# Altium footprint library tqfp.PcbLib: 23 footprints (part 1 of 2)
Each footprint in its own frame and in the unit in brackets; x right, y up, seen from the top. Pads: shape width x height; smd on the part's side, far side on the other; paste and mask are expansions set on the pad; w line width, h text height; cw(c..) or ccw(c..) is an arc to the next point about the centre after c.
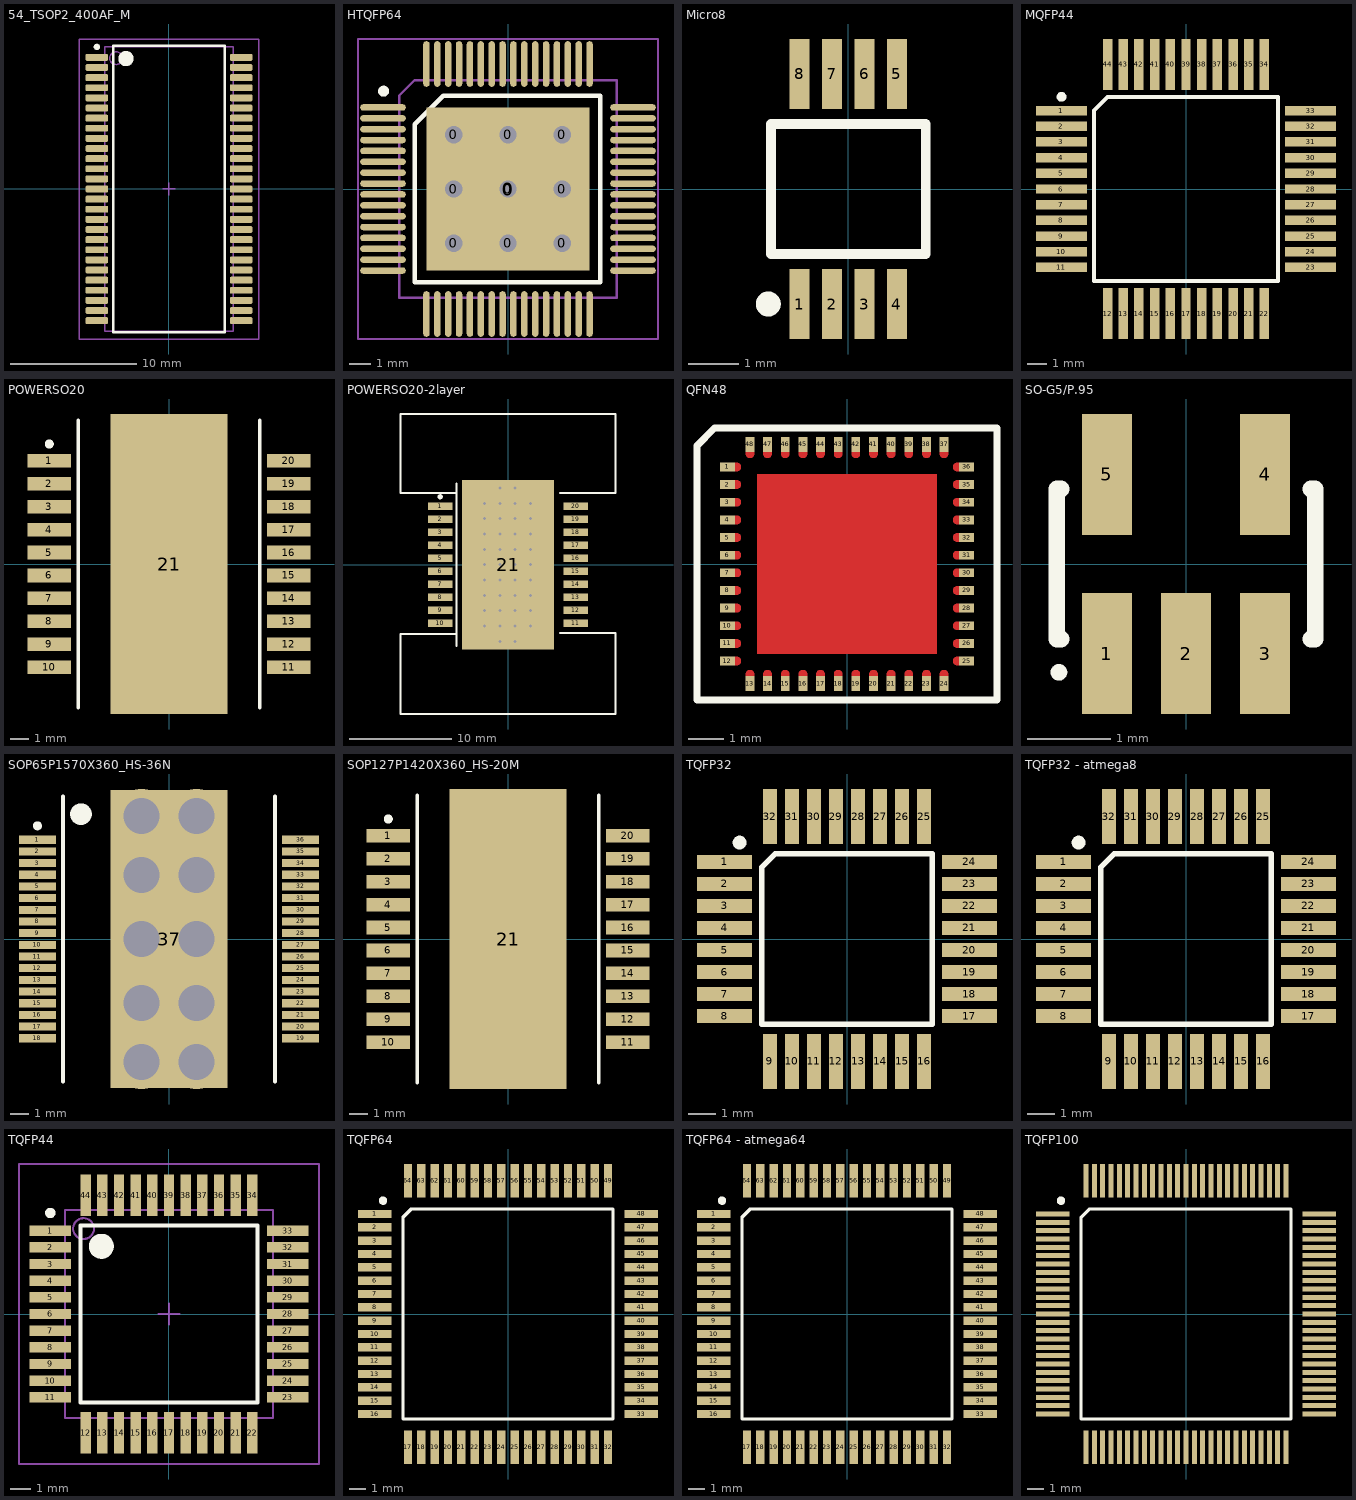
[diagram p0: the footprints below, top view; thin cyan lines are the x and y axes]

## 54_TSOP2_400AF_M [mm] "SOP, 54-Leads, Body 22.5x10.16mm, Pitch 0.8mm, IPC Low Density"
height 1.2
pads (54):
  rrect50% 1.8x0.55 smd: 1(-5.7,10.4) 2(-5.7,9.6) 3(-5.7,8.8) 4(-5.7,8) 5(-5.7,7.2) 6(-5.7,6.4) 7(-5.7,5.6) 8(-5.7,4.8) 9(-5.7,4) 10(-5.7,3.2) 11(-5.7,2.4) 12(-5.7,1.6) 13(-5.7,0.8) 14(-5.7,0) 15(-5.7,-0.8) 16(-5.7,-1.6) 17(-5.7,-2.4) 18(-5.7,-3.2) 19(-5.7,-4) 20(-5.7,-4.8) 21(-5.7,-5.6) 22(-5.7,-6.4) 23(-5.7,-7.2) 24(-5.7,-8) 25(-5.7,-8.8) 26(-5.7,-9.6) 27(-5.7,-10.4) 28(5.7,-10.4) 29(5.7,-9.6) 30(5.7,-8.8) 31(5.7,-8) 32(5.7,-7.2) 33(5.7,-6.4) 34(5.7,-5.6) 35(5.7,-4.8) 36(5.7,-4) 37(5.7,-3.2) 38(5.7,-2.4) 39(5.7,-1.6) 40(5.7,-0.8) 41(5.7,0) 42(5.7,0.8) 43(5.7,1.6) 44(5.7,2.4) 45(5.7,3.2) 46(5.7,4) 47(5.7,4.8) 48(5.7,5.6) 49(5.7,6.4) 50(5.7,7.2) 51(5.7,8) 52(5.7,8.8) 53(5.7,9.6) 54(5.7,10.4)
Top Overlay:
  circle w0.25: c-5.7,11.225 r0.125
  circle w0.6: c-3.4,10.3 r0.3
  lines w0.2: -4.4,-11.3 -4.4,11.3 4.4,11.3 4.4,-11.3 -4.4,-11.3
Mechanical 13:
  circle w0.1: c-4.18,10.335 r0.5
  lines w0.1: -5.08,-11.235 -5.08,11.235 5.08,11.235 5.08,-11.235 -5.08,-11.235
Mechanical 15:
  lines w0.1: -0.5,0 0.5,0 ; 0,-0.5 0,0.5 ; -7.1,-11.85 -7.1,11.85 7.1,11.85 7.1,-11.85 -7.1,-11.85
3D body: height 1.2, standoff 0, extent -5.08,-11.235 5.08,11.235

## HTQFP64 [mm]
pads (74):
  round 0.8 hole 0.8: 0(-2.5,-2.5) 0(-2.5,0) 0(-2.5,2.5) 0(0,-2.5) 0(0,0) 0(0,2.5) 0(2.5,-2.5) 0(2.5,0) 0(2.5,2.5)
  rect 7.5x7.5 smd: 0(0,0)
  oval 2.1x0.3 smd: 1(-5.75,3.75) 2(-5.75,3.25) 3(-5.75,2.75) 4(-5.75,2.25) 5(-5.75,1.75) 6(-5.75,1.25) 7(-5.75,0.75) 8(-5.75,0.25) 9(-5.75,-0.25) 10(-5.75,-0.75) 11(-5.75,-1.25) 12(-5.75,-1.75) 13(-5.75,-2.25) 14(-5.75,-2.75) 15(-5.75,-3.25) 16(-5.75,-3.75) 33(5.75,-3.75) 34(5.75,-3.25) 35(5.75,-2.75) 36(5.75,-2.25) 37(5.75,-1.75) 38(5.75,-1.25) 39(5.75,-0.75) 40(5.75,-0.25) 41(5.75,0.25) 42(5.75,0.75) 43(5.75,1.25) 44(5.75,1.75) 45(5.75,2.25) 46(5.75,2.75) 47(5.75,3.25) 48(5.75,3.75)
  oval 0.3x2.1 smd: 17(-3.75,-5.75) 18(-3.25,-5.75) 19(-2.75,-5.75) 20(-2.25,-5.75) 21(-1.75,-5.75) 22(-1.25,-5.75) 23(-0.75,-5.75) 24(-0.25,-5.75) 25(0.25,-5.75) 26(0.75,-5.75) 27(1.25,-5.75) 28(1.75,-5.75) 29(2.25,-5.75) 30(2.75,-5.75) 31(3.25,-5.75) 32(3.75,-5.75) 49(3.75,5.75) 50(3.25,5.75) 51(2.75,5.75) 52(2.25,5.75) 53(1.75,5.75) 54(1.25,5.75) 55(0.75,5.75) 56(0.25,5.75) 57(-0.25,5.75) 58(-0.75,5.75) 59(-1.25,5.75) 60(-1.75,5.75) 61(-2.25,5.75) 62(-2.75,5.75) 63(-3.25,5.75) 64(-3.75,5.75)
Top Overlay:
  circle w0.25: c-5.725,4.5 r0.125
  lines w0.2: -4.29,-4.29 -4.29,2.98 -2.98,4.29 4.25,4.29 4.25,-4.29 -4.29,-4.29
Mechanical 13:
  lines w0.1: -5,-5 5,-5 5,5 -4.3,5 -5,4.3 -5,-5
Mechanical 15:
  lines w0.1: -0.5,0 0.5,0 ; 0,-0.5 0,0.5 ; -6.9,-6.9 -6.9,6.9 6.9,6.9 6.9,-6.9 -6.9,-6.9
3D body: height 0, standoff 0, extent -5,-5 5,5

## Micro8 [mm]
height 1.1
pads (8):
  rect 0.4x1.4 smd: 1(-0.975,-2.3) 2(-0.325,-2.3) 3(0.325,-2.3) 4(0.975,-2.3) 5(0.975,2.3) 6(0.325,2.3) 7(-0.325,2.3) 8(-0.975,2.3)
Top Overlay:
  circle w0.25: c-1.6,-2.3 r0.125
  lines w0.2: -1.55,-1.3 1.55,-1.3 1.55,1.3 -1.55,1.3 -1.55,-1.3
3D body: height 1.09, standoff -0.01, extent -1.524,-2.469 1.576,2.469

## MQFP44 [mm] "QFP; 44 Leads; Body 10 x 10 mm; Pitch 0.8 mm"
height 2.45
pads (44):
  rect 2.6x0.48 smd: 1(-6.35,4) 2(-6.35,3.2) 3(-6.35,2.4) 4(-6.35,1.6) 5(-6.35,0.8) 6(-6.35,0) 7(-6.35,-0.8) 8(-6.35,-1.6) 9(-6.35,-2.4) 10(-6.35,-3.2) 11(-6.35,-4) 23(6.35,-4) 24(6.35,-3.2) 25(6.35,-2.4) 26(6.35,-1.6) 27(6.35,-0.8) 28(6.35,0) 29(6.35,0.8) 30(6.35,1.6) 31(6.35,2.4) 32(6.35,3.2) 33(6.35,4)
  rect 0.48x2.6 smd: 12(-4,-6.35) 13(-3.2,-6.35) 14(-2.4,-6.35) 15(-1.6,-6.35) 16(-0.8,-6.35) 17(0,-6.35) 18(0.8,-6.35) 19(1.6,-6.35) 20(2.4,-6.35) 21(3.2,-6.35) 22(4,-6.35) 34(4,6.35) 35(3.2,6.35) 36(2.4,6.35) 37(1.6,6.35) 38(0.8,6.35) 39(0,6.35) 40(-0.8,6.35) 41(-1.6,6.35) 42(-2.4,6.35) 43(-3.2,6.35) 44(-4,6.35)
Top Overlay:
  circle w0.25: c-6.35,4.7 r0.125
  lines w0.2: -4.7,-4.7 -4.7,4 -4,4.7 4.7,4.7 4.7,-4.7 -4.7,-4.7

## POWERSO20 [mm]
pads (21):
  rect 2.4x0.75 smd: 1(-6.625,5.715) 2(-6.625,4.445) 3(-6.625,3.175) 4(-6.625,1.905) 5(-6.625,0.635) 6(-6.625,-0.635) 7(-6.625,-1.905) 8(-6.625,-3.175) 9(-6.625,-4.445) 10(-6.625,-5.715) 11(6.625,-5.715) 12(6.625,-4.445) 13(6.625,-3.175) 14(6.625,-1.905) 15(6.625,-0.635) 16(6.625,0.635) 17(6.625,1.905) 18(6.625,3.175) 19(6.625,4.445) 20(6.625,5.715)
  rect 6.5x16.6 smd: 21(0,0)
Top Overlay:
  circle w0.25: c-6.625,6.64 r0.125
  lines w0.2: -5.025,-7.95 -5.025,7.95 ; 5.025,-7.95 5.025,7.95

## POWERSO20-2layer [mm]
pads (21):
  rect 2.4x0.75 smd: 1(-6.625,5.715) 2(-6.625,4.445) 3(-6.625,3.175) 4(-6.625,1.905) 5(-6.625,0.635) 6(-6.625,-0.635) 7(-6.625,-1.905) 8(-6.625,-3.175) 9(-6.625,-4.445) 10(-6.625,-5.715) 11(6.625,-5.715) 12(6.625,-4.445) 13(6.625,-3.175) 14(6.625,-1.905) 15(6.625,-0.635) 16(6.625,0.635) 17(6.625,1.905) 18(6.625,3.175) 19(6.625,4.445) 20(6.625,5.715)
  rect 9x16.6 smd: 21(0,0)
via -2.3,-6 diameter 1 hole 0.3
via -0.8,-6 diameter 1 hole 0.3
via 0.7,-6 diameter 1 hole 0.3
via 2.2,-6 diameter 1 hole 0.3
via 0.7,-7.5 diameter 1 hole 0.3
via -0.8,-7.5 diameter 1 hole 0.3
via -2.3,-3 diameter 1 hole 0.3
via -0.8,-3 diameter 1 hole 0.3
via 0.7,-3 diameter 1 hole 0.3
via 2.2,-3 diameter 1 hole 0.3
via 2.2,-4.5 diameter 1 hole 0.3
via 0.7,-4.5 diameter 1 hole 0.3
via -0.8,-4.5 diameter 1 hole 0.3
via -2.3,-4.5 diameter 1 hole 0.3
via -2.3,0 diameter 1 hole 0.3
via -0.8,0 diameter 1 hole 0.3
via 0.7,0 diameter 1 hole 0.3
via 2.2,0 diameter 1 hole 0.3
via 2.2,-1.5 diameter 1 hole 0.3
via 0.7,-1.5 diameter 1 hole 0.3
via -0.8,-1.5 diameter 1 hole 0.3
via -2.3,-1.5 diameter 1 hole 0.3
via -2.3,3 diameter 1 hole 0.3
via -0.8,3 diameter 1 hole 0.3
via 0.7,3 diameter 1 hole 0.3
via 2.2,3 diameter 1 hole 0.3
via 2.2,1.5 diameter 1 hole 0.3
via 0.7,1.5 diameter 1 hole 0.3
via -0.8,1.5 diameter 1 hole 0.3
via -2.3,1.5 diameter 1 hole 0.3
via -2.3,6 diameter 1 hole 0.3
via -0.8,6 diameter 1 hole 0.3
via 0.7,6 diameter 1 hole 0.3
via 2.2,6 diameter 1 hole 0.3
via 2.2,4.5 diameter 1 hole 0.3
via 0.7,4.5 diameter 1 hole 0.3
via -0.8,4.5 diameter 1 hole 0.3
via -2.3,4.5 diameter 1 hole 0.3
via -0.8,7.5 diameter 1 hole 0.3
via 0.7,7.5 diameter 1 hole 0.3
Top Overlay:
  circle w0.25: c-6.625,6.64 r0.125
  lines w0.2: -5.1,-6.8 -10.5,-6.8 -10.5,-14.6 10.5,-14.6 10.5,-6.7 5.1,-6.7 ; -5.1,7 -10.5,7 -10.5,14.732 10.5,14.732 10.5,7 5.1,7 ; -5.025,-7.95 -5.025,7.95
Bottom Overlay:
  lines w0.2: -10.5,-14.5 -10.5,14.732 10.5,14.732 10.5,-14.5 ; -10.4,-14.6 10.4,-14.6
  lines w0.254: -10.5,-14.5 -10.4,-14.6 ; 10.4,-14.6 10.5,-14.5

## QFN48 [mm] "QFN; 48 Leads; Body 7 x 8 mm; Pitch 0.5 mm"
height 1.4
pads (48):
  rect 0.425x0.25 smd mask+0.05: 1(-3.387,2.75) 2(-3.387,2.25) 3(-3.387,1.75) 4(-3.387,1.25) 5(-3.387,0.75) 6(-3.387,0.25) 7(-3.387,-0.25) 8(-3.387,-0.75) 9(-3.387,-1.25) 10(-3.387,-1.75) 11(-3.387,-2.25) 12(-3.387,-2.75) 25(3.387,-2.75) 26(3.387,-2.25) 27(3.387,-1.75) 28(3.387,-1.25) 29(3.387,-0.75) 30(3.387,-0.25) 31(3.387,0.25) 32(3.387,0.75) 33(3.387,1.25) 34(3.387,1.75) 35(3.387,2.25) 36(3.387,2.75)
  rect 0.25x0.425 smd mask+0.05: 13(-2.75,-3.387) 14(-2.25,-3.387) 15(-1.75,-3.387) 16(-1.25,-3.387) 17(-0.75,-3.387) 18(-0.25,-3.387) 19(0.25,-3.387) 20(0.75,-3.387) 21(1.25,-3.387) 22(1.75,-3.387) 23(2.25,-3.387) 24(2.75,-3.387) 37(2.75,3.387) 38(2.25,3.387) 39(1.75,3.387) 40(1.25,3.387) 41(0.75,3.387) 42(0.25,3.387) 43(-0.25,3.387) 44(-0.75,3.387) 45(-1.25,3.387) 46(-1.75,3.387) 47(-2.25,3.387) 48(-2.75,3.387)
Top Layer:
  rectangle: -2.55,-2.55 2.55,2.55
  rectangle: -3.175,-2.875 -3.125,-2.625
  rectangle: -2.875,-3.175 -2.625,-3.125
  rectangle: -2.375,-3.175 -2.125,-3.125
  rectangle: -1.875,-3.175 -1.625,-3.125
  rectangle: -1.375,-3.175 -1.125,-3.125
  rectangle: -0.875,-3.175 -0.625,-3.125
  rectangle: -0.375,-3.175 -0.125,-3.125
  rectangle: 0.125,-3.175 0.375,-3.125
  rectangle: 0.625,-3.175 0.875,-3.125
  rectangle: 1.125,-3.175 1.375,-3.125
  rectangle: 1.625,-3.175 1.875,-3.125
  rectangle: 2.125,-3.175 2.375,-3.125
  rectangle: 2.625,-3.175 2.875,-3.125
  rectangle: -2.875,3.125 -2.625,3.175
  rectangle: -2.375,3.125 -2.125,3.175
  rectangle: -1.875,3.125 -1.625,3.175
  rectangle: -1.375,3.125 -1.125,3.175
  rectangle: -0.875,3.125 -0.625,3.175
  rectangle: -0.375,3.125 -0.125,3.175
  rectangle: 0.125,3.125 0.375,3.175
  rectangle: 0.625,3.125 0.875,3.175
  rectangle: 1.125,3.125 1.375,3.175
  rectangle: 1.625,3.125 1.875,3.175
  rectangle: 2.125,3.125 2.375,3.175
  rectangle: 2.625,3.125 2.875,3.175
  rectangle: -3.175,-2.375 -3.125,-2.125
  rectangle: -3.175,-1.875 -3.125,-1.625
  rectangle: -3.175,-1.375 -3.125,-1.125
  rectangle: -3.175,-0.875 -3.125,-0.625
  rectangle: -3.175,-0.375 -3.125,-0.125
  rectangle: -3.175,0.125 -3.125,0.375
  rectangle: -3.175,0.625 -3.125,0.875
  rectangle: -3.175,1.125 -3.125,1.375
  rectangle: -3.175,1.625 -3.125,1.875
  rectangle: -3.175,2.125 -3.125,2.375
  rectangle: -3.175,2.625 -3.125,2.875
  rectangle: 3.125,2.625 3.175,2.875
  rectangle: 3.125,2.125 3.175,2.375
  rectangle: 3.125,1.625 3.175,1.875
  rectangle: 3.125,1.125 3.175,1.375
  rectangle: 3.125,0.625 3.175,0.875
  rectangle: 3.125,0.125 3.175,0.375
  rectangle: 3.125,-0.375 3.175,-0.125
  rectangle: 3.125,-0.875 3.175,-0.625
  rectangle: 3.125,-1.375 3.175,-1.125
  rectangle: 3.125,-1.875 3.175,-1.625
  rectangle: 3.125,-2.375 3.175,-2.125
  rectangle: 3.125,-2.875 3.175,-2.625
  lines w0.125: -3.125,-2.812 ccw(c-3.125,-2.75) -3.125,-2.688 ; -3.125,-2.312 ccw(c-3.125,-2.25) -3.125,-2.188 ; -3.125,-1.812 ccw(c-3.125,-1.75) -3.125,-1.687 ; -3.125,-1.312 ccw(c-3.125,-1.25) -3.125,-1.188 ; -3.125,-0.813 ccw(c-3.125,-0.75) -3.125,-0.688 ; -3.125,-0.312 ccw(c-3.125,-0.25) -3.125,-0.188 ; -3.125,0.188 ccw(c-3.125,0.25) -3.125,0.312 ; -3.125,0.688 ccw(c-3.125,0.75) -3.125,0.813 ; -3.125,1.188 ccw(c-3.125,1.25) -3.125,1.312 ; -3.125,1.687 ccw(c-3.125,1.75) -3.125,1.812 ; -3.125,2.188 ccw(c-3.125,2.25) -3.125,2.312 ; -3.125,2.688 ccw(c-3.125,2.75) -3.125,2.812 ; -2.812,-3.125 cw(c-2.75,-3.125) -2.688,-3.125 ; -2.812,3.125 ccw(c-2.75,3.125) -2.688,3.125 ; -2.312,-3.125 cw(c-2.25,-3.125) -2.188,-3.125 ; -2.312,3.125 ccw(c-2.25,3.125) -2.188,3.125 ; -1.812,-3.125 cw(c-1.75,-3.125) -1.687,-3.125 ; -1.812,3.125 ccw(c-1.75,3.125) -1.687,3.125 ; -1.312,-3.125 cw(c-1.25,-3.125) -1.188,-3.125 ; -1.312,3.125 ccw(c-1.25,3.125) -1.188,3.125 ; -0.813,-3.125 cw(c-0.75,-3.125) -0.688,-3.125 ; -0.813,3.125 ccw(c-0.75,3.125) -0.688,3.125 ; -0.312,-3.125 cw(c-0.25,-3.125) -0.188,-3.125 ; -0.312,3.125 ccw(c-0.25,3.125) -0.188,3.125 ; 0.188,-3.125 cw(c0.25,-3.125) 0.312,-3.125 ; 0.188,3.125 ccw(c0.25,3.125) 0.312,3.125 ; 0.688,-3.125 cw(c0.75,-3.125) 0.813,-3.125 ; 0.688,3.125 ccw(c0.75,3.125) 0.813,3.125 ; 1.188,-3.125 cw(c1.25,-3.125) 1.312,-3.125 ; 1.188,3.125 ccw(c1.25,3.125) 1.312,3.125 ; 1.687,-3.125 cw(c1.75,-3.125) 1.812,-3.125 ; 1.687,3.125 ccw(c1.75,3.125) 1.812,3.125 ; 2.188,-3.125 cw(c2.25,-3.125) 2.312,-3.125 ; 2.188,3.125 ccw(c2.25,3.125) 2.312,3.125 ; 2.688,-3.125 cw(c2.75,-3.125) 2.812,-3.125 ; 2.688,3.125 ccw(c2.75,3.125) 2.812,3.125 ; 3.125,-2.812 cw(c3.125,-2.75) 3.125,-2.688 ; 3.125,-2.312 cw(c3.125,-2.25) 3.125,-2.188 ; 3.125,-1.812 cw(c3.125,-1.75) 3.125,-1.687 ; 3.125,-1.312 cw(c3.125,-1.25) 3.125,-1.188 ; 3.125,-0.813 cw(c3.125,-0.75) 3.125,-0.688 ; 3.125,-0.312 cw(c3.125,-0.25) 3.125,-0.188 ; 3.125,0.188 cw(c3.125,0.25) 3.125,0.312 ; 3.125,0.688 cw(c3.125,0.75) 3.125,0.813 ; 3.125,1.188 cw(c3.125,1.25) 3.125,1.312 ; 3.125,1.687 cw(c3.125,1.75) 3.125,1.812 ; 3.125,2.188 cw(c3.125,2.25) 3.125,2.312 ; 3.125,2.688 cw(c3.125,2.75) 3.125,2.812
Top Overlay:
  lines w0.2: -4.25,-3.85 -4.25,3.35 -3.75,3.85 4.25,3.85 4.25,-3.85 -4.25,-3.85
Top Paste:
  rectangle: 0.125,-2.325 2.325,-0.125
  rectangle: -2.325,-2.325 -0.125,-0.125
  rectangle: 0.125,0.125 2.325,2.325
  rectangle: -2.325,0.125 -0.125,2.325
  rectangle: -3.175,-2.875 -3.125,-2.625
  rectangle: -2.875,-3.175 -2.625,-3.125
  rectangle: -2.375,-3.175 -2.125,-3.125
  rectangle: -1.875,-3.175 -1.625,-3.125
  rectangle: -1.375,-3.175 -1.125,-3.125
  rectangle: -0.875,-3.175 -0.625,-3.125
  rectangle: -0.375,-3.175 -0.125,-3.125
  rectangle: 0.125,-3.175 0.375,-3.125
  rectangle: 0.625,-3.175 0.875,-3.125
  rectangle: 1.125,-3.175 1.375,-3.125
  rectangle: 1.625,-3.175 1.875,-3.125
  rectangle: 2.125,-3.175 2.375,-3.125
  rectangle: 2.625,-3.175 2.875,-3.125
  rectangle: -2.875,3.125 -2.625,3.175
  rectangle: -2.375,3.125 -2.125,3.175
  rectangle: -1.875,3.125 -1.625,3.175
  rectangle: -1.375,3.125 -1.125,3.175
  rectangle: -0.875,3.125 -0.625,3.175
  rectangle: -0.375,3.125 -0.125,3.175
  rectangle: 0.125,3.125 0.375,3.175
  rectangle: 0.625,3.125 0.875,3.175
  rectangle: 1.125,3.125 1.375,3.175
  rectangle: 1.625,3.125 1.875,3.175
  rectangle: 2.125,3.125 2.375,3.175
  rectangle: 2.625,3.125 2.875,3.175
  rectangle: -3.175,-2.375 -3.125,-2.125
  rectangle: -3.175,-1.875 -3.125,-1.625
  rectangle: -3.175,-1.375 -3.125,-1.125
  rectangle: -3.175,-0.875 -3.125,-0.625
  rectangle: -3.175,-0.375 -3.125,-0.125
  rectangle: -3.175,0.125 -3.125,0.375
  rectangle: -3.175,0.625 -3.125,0.875
  rectangle: -3.175,1.125 -3.125,1.375
  rectangle: -3.175,1.625 -3.125,1.875
  rectangle: -3.175,2.125 -3.125,2.375
  rectangle: -3.175,2.625 -3.125,2.875
  rectangle: 3.125,2.625 3.175,2.875
  rectangle: 3.125,2.125 3.175,2.375
  rectangle: 3.125,1.625 3.175,1.875
  rectangle: 3.125,1.125 3.175,1.375
  rectangle: 3.125,0.625 3.175,0.875
  rectangle: 3.125,0.125 3.175,0.375
  rectangle: 3.125,-0.375 3.175,-0.125
  rectangle: 3.125,-0.875 3.175,-0.625
  rectangle: 3.125,-1.375 3.175,-1.125
  rectangle: 3.125,-1.875 3.175,-1.625
  rectangle: 3.125,-2.375 3.175,-2.125
  rectangle: 3.125,-2.875 3.175,-2.625
  lines w0.125: -3.125,-2.812 ccw(c-3.125,-2.75) -3.125,-2.688 ; -3.125,-2.312 ccw(c-3.125,-2.25) -3.125,-2.188 ; -3.125,-1.812 ccw(c-3.125,-1.75) -3.125,-1.687 ; -3.125,-1.312 ccw(c-3.125,-1.25) -3.125,-1.188 ; -3.125,-0.813 ccw(c-3.125,-0.75) -3.125,-0.688 ; -3.125,-0.312 ccw(c-3.125,-0.25) -3.125,-0.188 ; -3.125,0.188 ccw(c-3.125,0.25) -3.125,0.312 ; -3.125,0.688 ccw(c-3.125,0.75) -3.125,0.813 ; -3.125,1.188 ccw(c-3.125,1.25) -3.125,1.312 ; -3.125,1.687 ccw(c-3.125,1.75) -3.125,1.812 ; -3.125,2.188 ccw(c-3.125,2.25) -3.125,2.312 ; -3.125,2.688 ccw(c-3.125,2.75) -3.125,2.812 ; -2.812,-3.125 cw(c-2.75,-3.125) -2.688,-3.125 ; -2.812,3.125 ccw(c-2.75,3.125) -2.688,3.125 ; -2.312,-3.125 cw(c-2.25,-3.125) -2.188,-3.125 ; -2.312,3.125 ccw(c-2.25,3.125) -2.188,3.125 ; -1.812,-3.125 cw(c-1.75,-3.125) -1.687,-3.125 ; -1.812,3.125 ccw(c-1.75,3.125) -1.687,3.125 ; -1.312,-3.125 cw(c-1.25,-3.125) -1.188,-3.125 ; -1.312,3.125 ccw(c-1.25,3.125) -1.188,3.125 ; -0.813,-3.125 cw(c-0.75,-3.125) -0.688,-3.125 ; -0.813,3.125 ccw(c-0.75,3.125) -0.688,3.125 ; -0.312,-3.125 cw(c-0.25,-3.125) -0.188,-3.125 ; -0.312,3.125 ccw(c-0.25,3.125) -0.188,3.125 ; 0.188,-3.125 cw(c0.25,-3.125) 0.312,-3.125 ; 0.188,3.125 ccw(c0.25,3.125) 0.312,3.125 ; 0.688,-3.125 cw(c0.75,-3.125) 0.813,-3.125 ; 0.688,3.125 ccw(c0.75,3.125) 0.813,3.125 ; 1.188,-3.125 cw(c1.25,-3.125) 1.312,-3.125 ; 1.188,3.125 ccw(c1.25,3.125) 1.312,3.125 ; 1.687,-3.125 cw(c1.75,-3.125) 1.812,-3.125 ; 1.687,3.125 ccw(c1.75,3.125) 1.812,3.125 ; 2.188,-3.125 cw(c2.25,-3.125) 2.312,-3.125 ; 2.188,3.125 ccw(c2.25,3.125) 2.312,3.125 ; 2.688,-3.125 cw(c2.75,-3.125) 2.812,-3.125 ; 2.688,3.125 ccw(c2.75,3.125) 2.812,3.125 ; 3.125,-2.812 cw(c3.125,-2.75) 3.125,-2.688 ; 3.125,-2.312 cw(c3.125,-2.25) 3.125,-2.188 ; 3.125,-1.812 cw(c3.125,-1.75) 3.125,-1.687 ; 3.125,-1.312 cw(c3.125,-1.25) 3.125,-1.188 ; 3.125,-0.813 cw(c3.125,-0.75) 3.125,-0.688 ; 3.125,-0.312 cw(c3.125,-0.25) 3.125,-0.188 ; 3.125,0.188 cw(c3.125,0.25) 3.125,0.312 ; 3.125,0.688 cw(c3.125,0.75) 3.125,0.813 ; 3.125,1.188 cw(c3.125,1.25) 3.125,1.312 ; 3.125,1.687 cw(c3.125,1.75) 3.125,1.812 ; 3.125,2.188 cw(c3.125,2.25) 3.125,2.312 ; 3.125,2.688 cw(c3.125,2.75) 3.125,2.812
Top Solder:
  rectangle: -2.6,-2.6 2.6,2.6
  lines w0.175: -3.125,-2.838 ccw(c-3.125,-2.75) -3.125,-2.662 ; -3.125,-2.338 ccw(c-3.125,-2.25) -3.125,-2.163 ; -3.125,-1.837 ccw(c-3.125,-1.75) -3.125,-1.662 ; -3.125,-1.338 ccw(c-3.125,-1.25) -3.125,-1.162 ; -3.125,-0.838 ccw(c-3.125,-0.75) -3.125,-0.663 ; -3.125,-0.337 ccw(c-3.125,-0.25) -3.125,-0.162 ; -3.125,0.162 ccw(c-3.125,0.25) -3.125,0.337 ; -3.125,0.663 ccw(c-3.125,0.75) -3.125,0.838 ; -3.125,1.162 ccw(c-3.125,1.25) -3.125,1.338 ; -3.125,1.662 ccw(c-3.125,1.75) -3.125,1.837 ; -3.125,2.163 ccw(c-3.125,2.25) -3.125,2.338 ; -3.125,2.662 ccw(c-3.125,2.75) -3.125,2.838 ; -2.838,-3.125 cw(c-2.75,-3.125) -2.662,-3.125 ; -2.838,3.125 ccw(c-2.75,3.125) -2.662,3.125 ; -2.338,-3.125 cw(c-2.25,-3.125) -2.163,-3.125 ; -2.338,3.125 ccw(c-2.25,3.125) -2.163,3.125 ; -1.837,-3.125 cw(c-1.75,-3.125) -1.662,-3.125 ; -1.837,3.125 ccw(c-1.75,3.125) -1.662,3.125 ; -1.338,-3.125 cw(c-1.25,-3.125) -1.162,-3.125 ; -1.338,3.125 ccw(c-1.25,3.125) -1.162,3.125 ; -0.838,-3.125 cw(c-0.75,-3.125) -0.663,-3.125 ; -0.838,3.125 ccw(c-0.75,3.125) -0.663,3.125 ; -0.337,-3.125 cw(c-0.25,-3.125) -0.162,-3.125 ; -0.337,3.125 ccw(c-0.25,3.125) -0.162,3.125 ; 0.162,-3.125 cw(c0.25,-3.125) 0.337,-3.125 ; 0.162,3.125 ccw(c0.25,3.125) 0.337,3.125 ; 0.663,-3.125 cw(c0.75,-3.125) 0.838,-3.125 ; 0.663,3.125 ccw(c0.75,3.125) 0.838,3.125 ; 1.162,-3.125 cw(c1.25,-3.125) 1.338,-3.125 ; 1.162,3.125 ccw(c1.25,3.125) 1.338,3.125 ; 1.662,-3.125 cw(c1.75,-3.125) 1.837,-3.125 ; 1.662,3.125 ccw(c1.75,3.125) 1.837,3.125 ; 2.163,-3.125 cw(c2.25,-3.125) 2.338,-3.125 ; 2.163,3.125 ccw(c2.25,3.125) 2.338,3.125 ; 2.662,-3.125 cw(c2.75,-3.125) 2.838,-3.125 ; 2.662,3.125 ccw(c2.75,3.125) 2.838,3.125 ; 3.125,-2.838 cw(c3.125,-2.75) 3.125,-2.662 ; 3.125,-2.338 cw(c3.125,-2.25) 3.125,-2.163 ; 3.125,-1.837 cw(c3.125,-1.75) 3.125,-1.662 ; 3.125,-1.338 cw(c3.125,-1.25) 3.125,-1.162 ; 3.125,-0.838 cw(c3.125,-0.75) 3.125,-0.663 ; 3.125,-0.337 cw(c3.125,-0.25) 3.125,-0.162 ; 3.125,0.162 cw(c3.125,0.25) 3.125,0.337 ; 3.125,0.663 cw(c3.125,0.75) 3.125,0.838 ; 3.125,1.162 cw(c3.125,1.25) 3.125,1.338 ; 3.125,1.662 cw(c3.125,1.75) 3.125,1.837 ; 3.125,2.163 cw(c3.125,2.25) 3.125,2.338 ; 3.125,2.662 cw(c3.125,2.75) 3.125,2.838

## SO-G5/P.95 [mm] "SOT-23/SC-74A; 5 Leads; Body 3.1 x 3 mm, inc. leads (LxW max)"
height 1.45
pads (5):
  rect 0.6x1.45 smd: 1(-0.95,-1.075) 2(0,-1.075) 3(0.95,-1.075) 4(0.95,1.075) 5(-0.95,1.075)
Top Overlay:
  circle w0.1: c-1.525,-1.3 r0.05
  lines w0.2: -1.5,-0.9 -1.55,-0.9 -1.55,0.9 -1.5,0.9 ; 1.5,-0.9 1.55,-0.9 1.55,0.9 1.5,0.9

## SOP65P1570X360_HS-36N [mm] "SOP, 36-Leads, Body 15,9x14,2mm (max), Pitch 0,65mm, IPC Medium Density"
height 3.6
pads (37):
  rect 2.05x0.45 smd: 1(-7.325,5.525) 2(-7.325,4.875) 3(-7.325,4.225) 4(-7.325,3.575) 5(-7.325,2.925) 6(-7.325,2.275) 7(-7.325,1.625) 8(-7.325,0.975) 9(-7.325,0.325) 10(-7.325,-0.325) 11(-7.325,-0.975) 12(-7.325,-1.625) 13(-7.325,-2.275) 14(-7.325,-2.925) 15(-7.325,-3.575) 16(-7.325,-4.225) 17(-7.325,-4.875) 18(-7.325,-5.525) 19(7.325,-5.525) 20(7.325,-4.875) 21(7.325,-4.225) 22(7.325,-3.575) 23(7.325,-2.925) 24(7.325,-2.275) 25(7.325,-1.625) 26(7.325,-0.975) 27(7.325,-0.325) 28(7.325,0.325) 29(7.325,0.975) 30(7.325,1.625) 31(7.325,2.275) 32(7.325,2.925) 33(7.325,3.575) 34(7.325,4.225) 35(7.325,4.875) 36(7.325,5.525)
  rect 6.5x16.6 smd: 37(0,0)
via 1.524,-6.858 diameter 3 hole 2
via -1.524,-6.858 diameter 3 hole 2
via 1.524,-3.556 diameter 3 hole 2
via -1.524,-3.556 diameter 3 hole 2
via 1.524,0 diameter 3 hole 2
via -1.524,0 diameter 3 hole 2
via 1.524,3.556 diameter 3 hole 2
via -1.524,3.556 diameter 3 hole 2
via 1.524,6.858 diameter 3 hole 2
via -1.524,6.858 diameter 3 hole 2
Top Overlay:
  circle w0.25: c-7.325,6.3 r0.125
  circle w0.6: c-4.9,6.95 r0.3
  lines w0.2: -5.9,-7.95 -5.9,7.95 ; 5.9,-7.95 5.9,7.95

## SOP127P1420X360_HS-20M [mm] "SOP, 20-Leads, Body 15,9x11,0mm (max), Pitch 1,27mm, IPC Low Density"
height 3.6
pads (21):
  rect 2.4x0.75 smd: 1(-6.625,5.715) 2(-6.625,4.445) 3(-6.625,3.175) 4(-6.625,1.905) 5(-6.625,0.635) 6(-6.625,-0.635) 7(-6.625,-1.905) 8(-6.625,-3.175) 9(-6.625,-4.445) 10(-6.625,-5.715) 11(6.625,-5.715) 12(6.625,-4.445) 13(6.625,-3.175) 14(6.625,-1.905) 15(6.625,-0.635) 16(6.625,0.635) 17(6.625,1.905) 18(6.625,3.175) 19(6.625,4.445) 20(6.625,5.715)
  rect 6.5x16.6 smd: 21(0,0)
Top Overlay:
  circle w0.25: c-6.625,6.64 r0.125
  lines w0.2: -5.025,-7.95 -5.025,7.95 ; 5.025,-7.95 5.025,7.95
3D body: height 3.31, standoff -0.09, extent -7.1,-7.9 6.9,7.9

## TQFP32 [mm] "QFP; 32 Leads; Body 7 x 7 mm; Pitch 0.8 mm"
height 1.2
pads (32):
  rect 2x0.5 smd: 1(-4.445,2.8) 2(-4.445,2) 3(-4.445,1.2) 4(-4.445,0.4) 5(-4.445,-0.4) 6(-4.445,-1.2) 7(-4.445,-2) 8(-4.445,-2.8) 17(4.445,-2.8) 18(4.445,-2) 19(4.445,-1.2) 20(4.445,-0.4) 21(4.445,0.4) 22(4.445,1.2) 23(4.445,2) 24(4.445,2.8)
  rect 0.5x2 smd: 9(-2.8,-4.445) 10(-2,-4.445) 11(-1.2,-4.445) 12(-0.4,-4.445) 13(0.4,-4.445) 14(1.2,-4.445) 15(2,-4.445) 16(2.8,-4.445) 25(2.8,4.445) 26(2,4.445) 27(1.2,4.445) 28(0.4,4.445) 29(-0.4,4.445) 30(-1.2,4.445) 31(-2,4.445) 32(-2.8,4.445)
Top Overlay:
  circle w0.25: c-3.9,3.5 r0.125
  lines w0.2: -3.1,-3.1 -3.1,2.6 -2.6,3.1 3.1,3.1 3.1,-3.1 -3.1,-3.1
3D body: height 1.1, standoff 0, extent -4.509,-4.517 4.509,4.5

## TQFP32 - atmega8 [mm] "QFP; 32 Leads; Body 7 x 7 mm; Pitch 0.8 mm"
height 1.2
pads (32):
  rect 2x0.5 smd: 1(-4.445,2.8) 2(-4.445,2) 3(-4.445,1.2) 4(-4.445,0.4) 5(-4.445,-0.4) 6(-4.445,-1.2) 7(-4.445,-2) 8(-4.445,-2.8) 17(4.445,-2.8) 18(4.445,-2) 19(4.445,-1.2) 20(4.445,-0.4) 21(4.445,0.4) 22(4.445,1.2) 23(4.445,2) 24(4.445,2.8)
  rect 0.5x2 smd: 9(-2.8,-4.445) 10(-2,-4.445) 11(-1.2,-4.445) 12(-0.4,-4.445) 13(0.4,-4.445) 14(1.2,-4.445) 15(2,-4.445) 16(2.8,-4.445) 25(2.8,4.445) 26(2,4.445) 27(1.2,4.445) 28(0.4,4.445) 29(-0.4,4.445) 30(-1.2,4.445) 31(-2,4.445) 32(-2.8,4.445)
Top Overlay:
  circle w0.25: c-3.9,3.5 r0.125
  lines w0.2: -3.1,-3.1 3.1,-3.1 3.1,3.1 -2.6,3.1 -3.1,2.6 -3.1,-3.1
3D body: height 1.08, standoff -0.03, extent -4.774,-4.8 4.826,4.8

## TQFP44 [mm]
pads (44):
  rect 2x0.5 smd: 1(-5.7,4) 2(-5.7,3.2) 3(-5.7,2.4) 4(-5.7,1.6) 5(-5.7,0.8) 6(-5.7,0) 7(-5.7,-0.8) 8(-5.7,-1.6) 9(-5.7,-2.4) 10(-5.7,-3.2) 11(-5.7,-4) 23(5.7,-4) 24(5.7,-3.2) 25(5.7,-2.4) 26(5.7,-1.6) 27(5.7,-0.8) 28(5.7,0) 29(5.7,0.8) 30(5.7,1.6) 31(5.7,2.4) 32(5.7,3.2) 33(5.7,4)
  rect 0.5x2 smd: 12(-4,-5.7) 13(-3.2,-5.7) 14(-2.4,-5.7) 15(-1.6,-5.7) 16(-0.8,-5.7) 17(0,-5.7) 18(0.8,-5.7) 19(1.6,-5.7) 20(2.4,-5.7) 21(3.2,-5.7) 22(4,-5.7) 34(4,5.7) 35(3.2,5.7) 36(2.4,5.7) 37(1.6,5.7) 38(0.8,5.7) 39(0,5.7) 40(-0.8,5.7) 41(-1.6,5.7) 42(-2.4,5.7) 43(-3.2,5.7) 44(-4,5.7)
Top Overlay:
  circle w0.6: c-3.25,3.25 r0.3
  circle w0.25: c-5.7,4.85 r0.125
  lines w0.2: -4.25,-4.25 4.25,-4.25 4.25,4.25 -4.25,4.25 -4.25,-4.25
Mechanical 13:
  circle w0.1: c-4.1,4.1 r0.5
  lines w0.1: -5,-5 5,-5 5,5 -5,5 -5,-5
Mechanical 15:
  lines w0.1: -0.5,0 0.5,0 ; 0,-0.5 0,0.5 ; -7.2,-7.2 7.2,-7.2 7.2,7.2 -7.2,7.2 -7.2,-7.2
3D body: height 1.1, standoff 0, extent -6.009,-6.009 6.009,6.009

## TQFP64 [mm] "QFP; 64 Leads; Body 14 x 14 mm; Pitch 0.8 mm"
height 1.2
pads (64):
  rect 2x0.5 smd: 1(-8,6) 2(-8,5.2) 3(-8,4.4) 4(-8,3.6) 5(-8,2.8) 6(-8,2) 7(-8,1.2) 8(-8,0.4) 9(-8,-0.4) 10(-8,-1.2) 11(-8,-2) 12(-8,-2.8) 13(-8,-3.6) 14(-8,-4.4) 15(-8,-5.2) 16(-8,-6) 33(8,-6) 34(8,-5.2) 35(8,-4.4) 36(8,-3.6) 37(8,-2.8) 38(8,-2) 39(8,-1.2) 40(8,-0.4) 41(8,0.4) 42(8,1.2) 43(8,2) 44(8,2.8) 45(8,3.6) 46(8,4.4) 47(8,5.2) 48(8,6)
  rect 0.5x2 smd: 17(-6,-8) 18(-5.2,-8) 19(-4.4,-8) 20(-3.6,-8) 21(-2.8,-8) 22(-2,-8) 23(-1.2,-8) 24(-0.4,-8) 25(0.4,-8) 26(1.2,-8) 27(2,-8) 28(2.8,-8) 29(3.6,-8) 30(4.4,-8) 31(5.2,-8) 32(6,-8) 49(6,8) 50(5.2,8) 51(4.4,8) 52(3.6,8) 53(2.8,8) 54(2,8) 55(1.2,8) 56(0.4,8) 57(-0.4,8) 58(-1.2,8) 59(-2,8) 60(-2.8,8) 61(-3.6,8) 62(-4.4,8) 63(-5.2,8) 64(-6,8)
Top Overlay:
  circle w0.25: c-7.5,6.8 r0.125
  lines w0.2: -6.3,-6.3 -6.3,5.8 -5.8,6.3 6.3,6.3 6.3,-6.3 -6.3,-6.3
3D body: height 1.1, standoff -0.01, extent -7.968,-8.032 8.032,7.968

## TQFP64 - atmega64 [mm] "QFP; 64 Leads; Body 14 x 14 mm; Pitch 0.8 mm"
height 1.2
pads (64):
  rect 2x0.5 smd: 1(-8,6) 2(-8,5.2) 3(-8,4.4) 4(-8,3.6) 5(-8,2.8) 6(-8,2) 7(-8,1.2) 8(-8,0.4) 9(-8,-0.4) 10(-8,-1.2) 11(-8,-2) 12(-8,-2.8) 13(-8,-3.6) 14(-8,-4.4) 15(-8,-5.2) 16(-8,-6) 33(8,-6) 34(8,-5.2) 35(8,-4.4) 36(8,-3.6) 37(8,-2.8) 38(8,-2) 39(8,-1.2) 40(8,-0.4) 41(8,0.4) 42(8,1.2) 43(8,2) 44(8,2.8) 45(8,3.6) 46(8,4.4) 47(8,5.2) 48(8,6)
  rect 0.5x2 smd: 17(-6,-8) 18(-5.2,-8) 19(-4.4,-8) 20(-3.6,-8) 21(-2.8,-8) 22(-2,-8) 23(-1.2,-8) 24(-0.4,-8) 25(0.4,-8) 26(1.2,-8) 27(2,-8) 28(2.8,-8) 29(3.6,-8) 30(4.4,-8) 31(5.2,-8) 32(6,-8) 49(6,8) 50(5.2,8) 51(4.4,8) 52(3.6,8) 53(2.8,8) 54(2,8) 55(1.2,8) 56(0.4,8) 57(-0.4,8) 58(-1.2,8) 59(-2,8) 60(-2.8,8) 61(-3.6,8) 62(-4.4,8) 63(-5.2,8) 64(-6,8)
Top Overlay:
  circle w0.25: c-7.5,6.8 r0.125
  lines w0.2: -6.3,-6.3 -6.3,5.8 -5.8,6.3 6.3,6.3 6.3,-6.3 -6.3,-6.3
3D body: height 1.08, standoff -0.03, extent -8,-8.001 8,7.999

## TQFP100 [mm] "QFP; 100 Leads; Body 14 x 14 mm; Pitch 0.5 mm"
height 1.2
pads (100):
  rect 2x0.3 smd: 1(-8,6) 2(-8,5.5) 3(-8,5) 4(-8,4.5) 5(-8,4) 6(-8,3.5) 7(-8,3) 8(-8,2.5) 9(-8,2) 10(-8,1.5) 11(-8,1) 12(-8,0.5) 13(-8,0) 14(-8,-0.5) 15(-8,-1) 16(-8,-1.5) 17(-8,-2) 18(-8,-2.5) 19(-8,-3) 20(-8,-3.5) 21(-8,-4) 22(-8,-4.5) 23(-8,-5) 24(-8,-5.5) 25(-8,-6) 51(8,-6) 52(8,-5.5) 53(8,-5) 54(8,-4.5) 55(8,-4) 56(8,-3.5) 57(8,-3) 58(8,-2.5) 59(8,-2) 60(8,-1.5) 61(8,-1) 62(8,-0.5) 63(8,0) 64(8,0.5) 65(8,1) 66(8,1.5) 67(8,2) 68(8,2.5) 69(8,3) 70(8,3.5) 71(8,4) 72(8,4.5) 73(8,5) 74(8,5.5) 75(8,6)
  rect 0.3x2 smd: 26(-6,-8) 27(-5.5,-8) 28(-5,-8) 29(-4.5,-8) 30(-4,-8) 31(-3.5,-8) 32(-3,-8) 33(-2.5,-8) 34(-2,-8) 35(-1.5,-8) 36(-1,-8) 37(-0.5,-8) 38(0,-8) 39(0.5,-8) 40(1,-8) 41(1.5,-8) 42(2,-8) 43(2.5,-8) 44(3,-8) 45(3.5,-8) 46(4,-8) 47(4.5,-8) 48(5,-8) 49(5.5,-8) 50(6,-8) 76(6,8) 77(5.5,8) 78(5,8) 79(4.5,8) 80(4,8) 81(3.5,8) 82(3,8) 83(2.5,8) 84(2,8) 85(1.5,8) 86(1,8) 87(0.5,8) 88(0,8) 89(-0.5,8) 90(-1,8) 91(-1.5,8) 92(-2,8.001) 93(-2.5,8.001) 94(-3,8.001) 95(-3.5,8.001) 96(-4,8.001) 97(-4.5,8.001) 98(-5,8.001) 99(-5.5,8.001) 100(-6,8.001)
Top Overlay:
  circle w0.25: c-7.5,6.8 r0.125
  lines w0.2: -6.3,-6.3 6.3,-6.3 6.3,6.3 -5.8,6.3 -6.3,5.8 -6.3,-6.3
3D body: height 1.61, standoff -0.01, extent -8,-8 8,8